# EAGLE library part PI4IO (library TQFN32)
PI4IOE5V96224 The PI4IOE5V96224 provides general purpose remote I/O expansion for most microcontroller families via the two-line bidirectional bus (I2C-bus) and is a part of the Fast-mode Plus family. The PI4IOE5V96224 supports high I2C-bus drive (25 mA) so that many more devices can be on the bus without the need for bus buffers, high total package sink capacity (600 mA) that supports having all 25 mA LEDs on at the same time and more device addresses (64) are available to allow many more devices on the bus without address conflicts. The device consists of a 24-bit quasi-bidirectional port and an I2C-bus interface. The PI4IOE5V96224 has a low current consumption and includes latched outputs with high current drive capability for directly driving LEDs. It also possesses an interrupt line (INT) which can be connected to the interrupt logic of the microcontroller. By sending an interrupt signal on this line, the remote I/O can inform the microcontroller if there is incoming data on its ports without having to communicate via the I2C-bus. The internal Power-On Reset (POR) or software reset sequence initializes the I/Os as inputs.
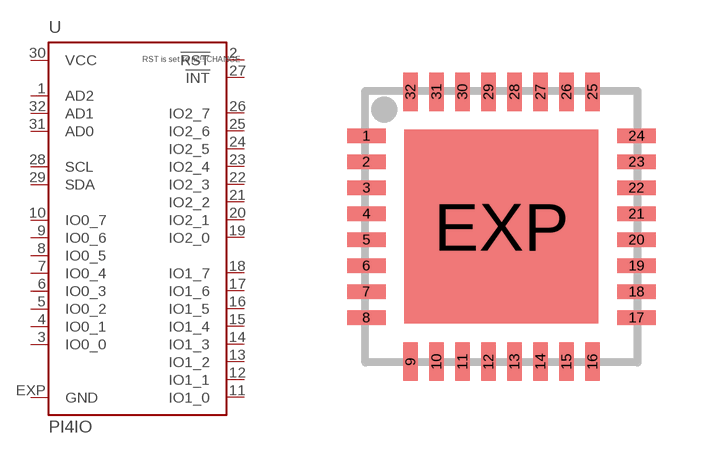
[diagram p1: symbol with the pads of TQFN32; footprint TQFN32]

Designator prefix -

## PI4IO  [TQFN32]
1  AD2  in
2  !RST!  nc
3  IO0_0
4  IO0_1
5  IO0_2
6  IO0_3
7  IO0_4
8  IO0_5
9  IO0_6
10  IO0_7
11  IO1_0
12  IO1_1
13  IO1_2
14  IO1_3
15  IO1_4
16  IO1_5
17  IO1_6
18  IO1_7
19  IO2_0
20  IO2_1
21  IO2_2
22  IO2_3
23  IO2_4
24  IO2_5
25  IO2_6
26  IO2_7
27  !INT!  oc
28  SCL  in
29  SDA
30  VCC  pwr
31  AD0  in
32  AD1  in
EXP  GND  pwr

## Footprint TQFN32 (pad centres in mm)
TQFN 7x7 mm Source: www.maxim-ic.com/packages .. 90-0125.pdf
smd 0.965 x 0.366: 1 -3.378,2.275; 2 -3.378,1.625; 3 -3.378,0.975; 4 -3.378,0.325; 5 -3.378,-0.325; 6 -3.378,-0.975; 7 -3.378,-1.625; 8 -3.378,-2.275; 17 3.378,-2.275; 18 3.378,-1.625; 19 3.378,-0.975; 20 3.378,-0.325; 21 3.378,0.325; 22 3.378,0.975; 23 3.378,1.625; 24 3.378,2.275
smd 0.366 x 0.965: 9 -2.275,-3.378; 10 -1.625,-3.378; 11 -0.975,-3.378; 12 -0.325,-3.378; 13 0.325,-3.378; 14 0.975,-3.378; 15 1.625,-3.378; 16 2.275,-3.378; 25 2.275,3.378; 26 1.625,3.378; 27 0.975,3.378; 28 0.325,3.378; 29 -0.325,3.378; 30 -0.975,3.378; 31 -1.625,3.378; 32 -2.275,3.378
smd 4.851 x 4.851: EXP 0,0